# EAGLE library part MOLEX-105017-1001 (library USB-Micro-B-2.0)
usb-b-micro
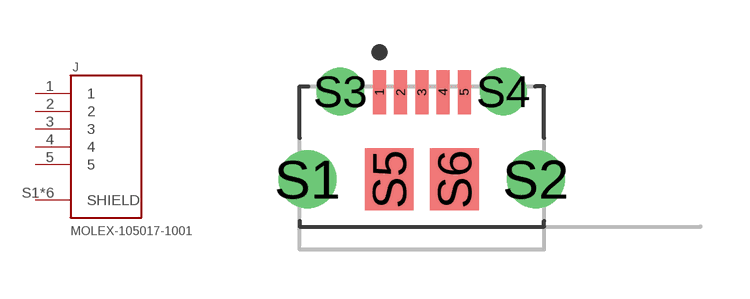
[diagram p2: symbol with the pads of MOLEX-105017-1001; footprint MOLEX-105017-1001]

Designator prefix J

## MOLEX-105017-1001  [MOLEX-105017-1001]
1  1  pas
2  2  pas
3  3  pas
4  4  pas
5  5  pas
S1  SHIELD  pas
S2  SHIELD  pas
S3  SHIELD  pas
S4  SHIELD  pas
S5  SHIELD  pas
S6  SHIELD  pas

## Footprint MOLEX-105017-1001 (pad centres in mm)
USB-B-MICRO-TYPE2.0.
smd 0.4 x 1.35: 1 -1.3,1.405; 2 -0.65,1.405; 3 0,1.405; 4 0.65,1.405; 5 1.3,1.405
drill 0.9 pad 1.778: S1 -3.5,-1.27; S2 3.5,-1.27
drill 0.85 pad 1.45: S3 -2.5,1.43; S4 2.5,1.43
smd 1.5 x 1.9: S5 -1,-1.27; S6 1,-1.27